# Altium schematic symbol library MyLibs_Sensors.SchLib: 2 symbols
Pins are listed as number, name and electrical type; pins without a type are passive.

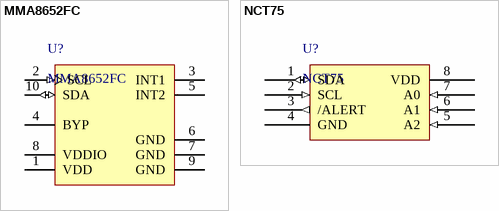
[diagram p0: symbols MMA8652FC to NCT75]

## MMA8652FC
designator U?
ACCELEROMETER 2-8G I2C 10DFN
pins: 1 VDD (power) "Power supply", 2 SCL (in) "I2C Serial Clock", 3 INT1 (oc) "Interrupt 1 output", 4 BYP "Internal regulator output, capacitor connection", 5 INT2 (oc) "Interrupt 2 output", 6 GND (power) "Ground", 7 GND (power) "Ground", 8 VDDIO (power) "Digital Interface Power supply", 9 GND (power) "Ground", 10 SDA (io) "I2C Serial Data"

## NCT75
designator U?
SENSOR DIGITAL -55C-125C MICRO8
pins: 1 SDA (io), 2 SCL (in), 3 /ALERT (out), 4 GND (power), 5 A2 (in), 6 A1 (in), 7 A0 (in), 8 VDD (power)